# Altium integrated library Capacitor - Ceramic - Sumsung.IntLib: 1421 symbols (part 6 of 22)
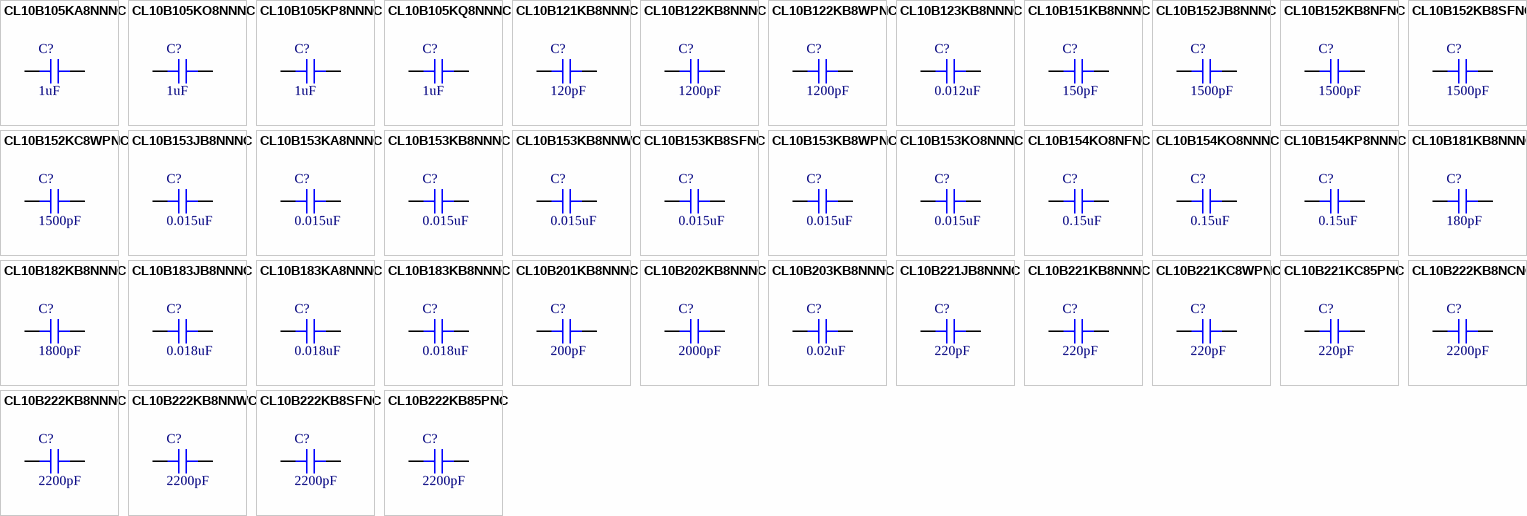
[diagram p40: symbols CL10B105KA8NNNC to CL10B222KB85PNC]

## CL10B122KB8NNNC
designator C?, comment 1200pF
CAP CER 1200PF 50V X7R 0603; Part Number: CL10B122KB8NNNC; Manufacturer: Samsung Electro-Mechanics America, Inc.; TemperatureRange: -55C ~ 125C; Tolerance: 10%; Value: 1200pF; PartId: 5350; Supplier 1: Digi-Key; Supplier Part Number 1: 1276-1951-2-ND; ComponentLink1Description: Datasheet; ComponentLink1URL: http://www.samsungsem.com/kr/support/product-search/mlcc/CL10B122KB8NNNC.jsp; ComponentLink2Description: Digi-Key listing; ComponentLink2URL: http://digikey.com/product-detail/en/CL10B122KB8NNNC/1276-1951-2-ND/3887609; TemperatureCoefficient: X7R; Voltage: 50V; Price: 0.0097; Type: -; Device Package: 0603 (1608 Metric)
footprint CAP 0603/1608
pins: 1, 2

## CL10B122KB8WPNC
designator C?, comment 1200pF
CAP CER 1200PF 50V X7R 0603; Part Number: CL10B122KB8WPNC; Manufacturer: Samsung Electro-Mechanics; TemperatureRange: -55C ~ 125C; Tolerance: 10%; Value: 1200pF; PartId: 30772; Supplier 1: Digi-Key; Supplier Part Number 1: 1276-6602-2-ND; ComponentLink1Description: Datasheet; ComponentLink1URL: http://www.samsungsem.com/kr/support/product-search/mlcc/CL10B122KB8WPNC.jsp; ComponentLink2Description: Digi-Key Listing; ComponentLink2URL: https://www.digikey.com/product-detail/en/samsung-electro-mechanics/CL10B122KB8WPNC/1276-6602-2-ND/5961086; TemperatureCoefficient: X7R; Voltage: 50V; Price: 0; Device Package: 0603 (1608 Metric)
footprint CAP 0603/1608
pins: 1, 2

## CL10B123KB8NNNC
designator C?, comment 0.012uF
CAP CER 0.012UF 50V X7R 0603; Part Number: CL10B123KB8NNNC; Manufacturer: Samsung Electro-Mechanics America, Inc.; TemperatureRange: -55C ~ 125C; Tolerance: 10%; Value: 0.012uF; PartId: 5448; Supplier 1: Digi-Key; Supplier Part Number 1: 1276-1785-2-ND; ComponentLink1Description: Datasheet; ComponentLink1URL: http://www.samsungsem.com/kr/support/product-search/mlcc/CL10B123KB8NNNC.jsp; ComponentLink2Description: Digi-Key listing; ComponentLink2URL: http://digikey.com/product-detail/en/CL10B123KB8NNNC/1276-1785-2-ND/3887443; TemperatureCoefficient: X7R; Voltage: 50V; Price: 0.0153; Type: -; Device Package: 0603 (1608 Metric)
footprint CAP 0603/1608
pins: 1, 2

## CL10B151KB8NNNC
designator C?, comment 150pF
CAP CER 150PF 50V X7R 0603; Part Number: CL10B151KB8NNNC; Manufacturer: Samsung Electro-Mechanics; TemperatureRange: -55C ~ 125C; Tolerance: 10%; Value: 150pF; PartId: 30217; Supplier 1: Digi-Key; Supplier Part Number 1: 1276-1956-2-ND; ComponentLink1Description: Datasheet; ComponentLink1URL: http://www.samsungsem.com/kr/support/product-search/mlcc/CL10B151KB8NNNC.jsp; ComponentLink2Description: Digi-Key Listing; ComponentLink2URL: https://www.digikey.com/product-detail/en/samsung-electro-mechanics/CL10B151KB8NNNC/1276-1956-2-ND/3887614; TemperatureCoefficient: X7R; Voltage: 50V; Price: 0; Device Package: 0603 (1608 Metric)
footprint CAP 0603/1608
pins: 1, 2

## CL10B152JB8NNNC
designator C?, comment 1500pF
CAP CER 1500PF 50V X7R 0603; Part Number: CL10B152JB8NNNC; Manufacturer: Samsung Electro-Mechanics America, Inc.; TemperatureRange: -55C ~ 125C; Tolerance: 5%; Value: 1500pF; PartId: 5465; Supplier 1: Digi-Key; Supplier Part Number 1: 1276-1957-2-ND; ComponentLink1Description: Datasheet; ComponentLink1URL: http://www.samsungsem.com/kr/support/product-search/mlcc/CL10B152JB8NNNC.jsp; ComponentLink2Description: Digi-Key listing; ComponentLink2URL: http://digikey.com/product-detail/en/CL10B152JB8NNNC/1276-1957-2-ND/3887615; TemperatureCoefficient: X7R; Voltage: 50V; Price: 0.0163; Type: -; Device Package: 0603 (1608 Metric)
footprint CAP 0603/1608
pins: 1, 2

## CL10B152KB8NFNC
designator C?, comment 1500pF
CAP CER 1500PF 50V X7R 0603; Part Number: CL10B152KB8NFNC; Manufacturer: Samsung Electro-Mechanics; TemperatureRange: -55C ~ 125C; Tolerance: 10%; Value: 1500pF; PartId: 30214; Supplier 1: Digi-Key; Supplier Part Number 1: 1276-1958-2-ND; ComponentLink1Description: Datasheet; ComponentLink1URL: http://www.samsungsem.com/kr/support/product-search/mlcc/CL10B152KB8NFNC.jsp; ComponentLink2Description: Digi-Key Listing; ComponentLink2URL: https://www.digikey.com/product-detail/en/samsung-electro-mechanics/CL10B152KB8NFNC/1276-1958-2-ND/3887616; TemperatureCoefficient: X7R; Voltage: 50V; Price: 0; Device Package: 0603 (1608 Metric)
footprint CAP 0603/1608
pins: 1, 2

## CL10B152KB8SFNC
designator C?, comment 1500pF
CAP CER 1500PF 50V X7R 0603; Part Number: CL10B152KB8SFNC; Manufacturer: Samsung Electro-Mechanics America, Inc.; TemperatureRange: -55C ~ 125C; Tolerance: 10%; Value: 1500pF; PartId: 13179; Supplier 1: Digi-Key; Supplier Part Number 1: 1276-1960-2-ND; ComponentLink1Description: Datasheet; ComponentLink1URL: http://www.samsungsem.com/kr/support/product-search/mlcc/CL10B152KB8SFNC.jsp; ComponentLink2Description: Digi-Key Listing; ComponentLink2URL: https://www.digikey.com/product-detail/en/samsung-electro-mechanics-america-inc/CL10B152KB8SFNC/1276-1960-2-ND/3887618; TemperatureCoefficient: X7R; Voltage: 50V; Price: 0.0063; Device Package: 0603 (1608 Metric)
footprint CAP 0603/1608
pins: 1, 2

## CL10B152KC8WPNC
designator C?, comment 1500pF
CAP CER 1500PF 100V X7R 0603; Part Number: CL10B152KC8WPNC; Manufacturer: Samsung Electro-Mechanics; TemperatureRange: -55C ~ 125C; Tolerance: 10%; Value: 1500pF; PartId: 30370; Supplier 1: Digi-Key; Supplier Part Number 1: 1276-6681-2-ND; ComponentLink1Description: Datasheet; ComponentLink1URL: http://www.samsungsem.com/kr/support/product-search/mlcc/CL10B152KC8WPNC.jsp; ComponentLink2Description: Digi-Key Listing; ComponentLink2URL: https://www.digikey.com/product-detail/en/samsung-electro-mechanics/CL10B152KC8WPNC/1276-6681-2-ND/5961165; TemperatureCoefficient: X7R; Voltage: 100V; Price: 0; Device Package: 0603 (1608 Metric)
footprint CAP 0603/1608
pins: 1, 2

## CL10B153JB8NNNC
designator C?, comment 0.015uF
CAP CER 0.015UF 50V X7R 0603; Part Number: CL10B153JB8NNNC; Manufacturer: Samsung Electro-Mechanics America, Inc.; TemperatureRange: -55C ~ 125C; Tolerance: 5%; Value: 0.015uF; PartId: 5531; Supplier 1: Digi-Key; Supplier Part Number 1: 1276-1962-2-ND; ComponentLink1Description: Datasheet; ComponentLink1URL: http://www.samsungsem.com/kr/support/product-search/mlcc/CL10B153JB8NNNC.jsp; ComponentLink2Description: Digi-Key listing; ComponentLink2URL: http://digikey.com/product-detail/en/CL10B153JB8NNNC/1276-1962-2-ND/3887620; TemperatureCoefficient: X7R; Voltage: 50V; Price: 0.0239; Type: -; Device Package: 0603 (1608 Metric)
footprint CAP 0603/1608
pins: 1, 2

## CL10B153KA8NNNC
designator C?, comment 0.015uF
CAP CER 0.015UF 25V X7R 0603; Part Number: CL10B153KA8NNNC; Manufacturer: Samsung Electro-Mechanics America, Inc.; TemperatureRange: -55C ~ 125C; Tolerance: 10%; Value: 0.015uF; PartId: 5287; Supplier 1: Digi-Key; Supplier Part Number 1: 1276-1963-2-ND; ComponentLink1Description: Datasheet; ComponentLink1URL: http://www.samsungsem.com/kr/support/product-search/mlcc/CL10B153KA8NNNC.jsp; ComponentLink2Description: Digi-Key listing; ComponentLink2URL: http://digikey.com/product-detail/en/CL10B153KA8NNNC/1276-1963-2-ND/3887621; TemperatureCoefficient: X7R; Voltage: 25V; Price: 0.007; Type: -; Device Package: 0603 (1608 Metric)
footprint CAP 0603/1608
pins: 1, 2

## CL10B153KB8NNNC
designator C?, comment 0.015uF
CAP CER 0.015UF 50V X7R 0603; Part Number: CL10B153KB8NNNC; Manufacturer: Samsung Electro-Mechanics; TemperatureRange: -55C ~ 125C; Tolerance: 10%; Value: 0.015uF; PartId: 30202; Supplier 1: Digi-Key; Supplier Part Number 1: 1276-1277-2-ND; ComponentLink1Description: Datasheet; ComponentLink1URL: http://www.samsungsem.com/kr/support/product-search/mlcc/CL10B153KB8NNNC.jsp; ComponentLink2Description: Digi-Key Listing; ComponentLink2URL: https://www.digikey.com/product-detail/en/samsung-electro-mechanics/CL10B153KB8NNNC/1276-1277-2-ND/3886935; TemperatureCoefficient: X7R; Voltage: 50V; Price: 0; Device Package: 0603 (1608 Metric)
footprint CAP 0603/1608
pins: 1, 2

## CL10B153KB8NNWC
designator C?, comment 0.015uF
CAP CER 0.015UF 50V X7R 0603; Part Number: CL10B153KB8NNWC; Manufacturer: Samsung Electro-Mechanics; TemperatureRange: -55C ~ 125C; Tolerance: 10%; Value: 0.015uF; PartId: 30290; Supplier 1: Digi-Key; Supplier Part Number 1: 1276-1966-2-ND; ComponentLink1Description: Datasheet; ComponentLink1URL: http://www.samsungsem.com/kr/support/product-search/mlcc/CL10B153KB8NNWC.jsp; ComponentLink2Description: Digi-Key Listing; ComponentLink2URL: https://www.digikey.com/product-detail/en/samsung-electro-mechanics/CL10B153KB8NNWC/1276-1966-2-ND/3887624; TemperatureCoefficient: X7R; Voltage: 50V; Price: 0; Device Package: 0603 (1608 Metric)
footprint CAP 0603/1608
pins: 1, 2

## CL10B153KB8SFNC
designator C?, comment 0.015uF
CAP CER 0.015UF 50V X7R 0603; Part Number: CL10B153KB8SFNC; Manufacturer: Samsung Electro-Mechanics America, Inc.; TemperatureRange: -55C ~ 125C; Tolerance: 10%; Value: 0.015uF; PartId: 13221; Supplier 1: Digi-Key; Supplier Part Number 1: 1276-1967-2-ND; ComponentLink1Description: Datasheet; ComponentLink1URL: http://www.samsungsem.com/kr/support/product-search/mlcc/CL10B153KB8SFNC.jsp; ComponentLink2Description: Digi-Key Listing; ComponentLink2URL: https://www.digikey.com/product-detail/en/samsung-electro-mechanics-america-inc/CL10B153KB8SFNC/1276-1967-2-ND/3887625; TemperatureCoefficient: X7R; Voltage: 50V; Price: 0.0049; Device Package: 0603 (1608 Metric)
footprint CAP 0603/1608
pins: 1, 2

## CL10B153KB8WPNC
designator C?, comment 0.015uF
CAP CER 0.015UF 50V X7R 0603; Part Number: CL10B153KB8WPNC; Manufacturer: Samsung Electro-Mechanics; TemperatureRange: -55C ~ 125C; Tolerance: 10%; Value: 0.015uF; PartId: 30245; Supplier 1: Digi-Key; Supplier Part Number 1: 1276-6626-2-ND; ComponentLink1Description: Datasheet; ComponentLink1URL: http://www.samsungsem.com/kr/support/product-search/mlcc/CL10B153KB8WPNC.jsp; ComponentLink2Description: Digi-Key Listing; ComponentLink2URL: https://www.digikey.com/product-detail/en/samsung-electro-mechanics/CL10B153KB8WPNC/1276-6626-2-ND/5961110; TemperatureCoefficient: X7R; Voltage: 50V; Price: 0; Device Package: 0603 (1608 Metric)
footprint CAP 0603/1608
pins: 1, 2

## CL10B153KO8NNNC
designator C?, comment 0.015uF
CAP CER 0.015UF 16V X7R 0603; Part Number: CL10B153KO8NNNC; Manufacturer: Samsung Electro-Mechanics America, Inc.; TemperatureRange: -55C ~ 125C; Tolerance: 10%; Value: 0.015uF; PartId: 5286; Supplier 1: Digi-Key; Supplier Part Number 1: 1276-1968-2-ND; ComponentLink1Description: Datasheet; ComponentLink1URL: http://www.samsungsem.com/kr/support/product-search/mlcc/CL10B153KO8NNNC.jsp; ComponentLink2Description: Digi-Key listing; ComponentLink2URL: http://digikey.com/product-detail/en/CL10B153KO8NNNC/1276-1968-2-ND/3887626; TemperatureCoefficient: X7R; Voltage: 16V; Price: 0.007; Type: -; Device Package: 0603 (1608 Metric)
footprint CAP 0603/1608
pins: 1, 2

## CL10B154KO8NFNC
designator C?, comment 0.15uF
CAP CER 0.15UF 16V X7R 0603; Part Number: CL10B154KO8NFNC; Manufacturer: Samsung Electro-Mechanics America, Inc.; TemperatureRange: -55C ~ 125C; Tolerance: 10%; Value: 0.15uF; PartId: 5469; Supplier 1: Digi-Key; Supplier Part Number 1: 1276-1971-2-ND; ComponentLink1Description: Datasheet; ComponentLink1URL: http://www.samsungsem.com/kr/support/product-search/mlcc/CL10B154KO8NFNC.jsp; ComponentLink2Description: Digi-Key listing; ComponentLink2URL: http://digikey.com/product-detail/en/CL10B154KO8NFNC/1276-1971-2-ND/3887629; TemperatureCoefficient: X7R; Voltage: 16V; Price: 0.0165; Type: -; Device Package: 0603 (1608 Metric)
footprint CAP 0603/1608
pins: 1, 2

## CL10B154KO8NNNC
designator C?, comment 0.15uF
CAP CER 0.15UF 16V X7R 0603; Part Number: CL10B154KO8NNNC; Manufacturer: Samsung Electro-Mechanics; TemperatureRange: -55C ~ 125C; Tolerance: 10%; Value: 0.15uF; PartId: 30321; Supplier 1: Digi-Key; Supplier Part Number 1: 1276-1972-2-ND; ComponentLink1Description: Datasheet; ComponentLink1URL: http://www.samsungsem.com/kr/support/product-search/mlcc/CL10B154KO8NNNC.jsp; ComponentLink2Description: Digi-Key Listing; ComponentLink2URL: https://www.digikey.com/product-detail/en/samsung-electro-mechanics/CL10B154KO8NNNC/1276-1972-2-ND/3887630; TemperatureCoefficient: X7R; Voltage: 16V; Price: 0; Device Package: 0603 (1608 Metric)
footprint CAP 0603/1608
pins: 1, 2

## CL10B154KP8NNNC
designator C?, comment 0.15uF
CAP CER 0.15UF 10V X7R 0603; Part Number: CL10B154KP8NNNC; Manufacturer: Samsung Electro-Mechanics America, Inc.; TemperatureRange: -55C ~ 125C; Tolerance: 10%; Value: 0.15uF; PartId: 5470; Supplier 1: Digi-Key; Supplier Part Number 1: 1276-1973-2-ND; ComponentLink1Description: Datasheet; ComponentLink1URL: http://www.samsungsem.com/kr/support/product-search/mlcc/CL10B154KP8NNNC.jsp; ComponentLink2Description: Digi-Key listing; ComponentLink2URL: http://digikey.com/product-detail/en/CL10B154KP8NNNC/1276-1973-2-ND/3887631; TemperatureCoefficient: X7R; Voltage: 10V; Price: 0.0165; Type: -; Device Package: 0603 (1608 Metric)
footprint CAP 0603/1608
pins: 1, 2

## CL10B181KB8NNNC
designator C?, comment 180pF
CAP CER 180PF 50V X7R 0603; Part Number: CL10B181KB8NNNC; Manufacturer: Samsung Electro-Mechanics America, Inc.; TemperatureRange: -55C ~ 125C; Tolerance: 10%; Value: 180pF; PartId: 5351; Supplier 1: Digi-Key; Supplier Part Number 1: 1276-1974-2-ND; ComponentLink1Description: Datasheet; ComponentLink1URL: http://www.samsungsem.com/kr/support/product-search/mlcc/CL10B181KB8NNNC.jsp; ComponentLink2Description: Digi-Key listing; ComponentLink2URL: http://digikey.com/product-detail/en/CL10B181KB8NNNC/1276-1974-2-ND/3887632; TemperatureCoefficient: X7R; Voltage: 50V; Price: 0.0097; Type: -; Device Package: 0603 (1608 Metric)
footprint CAP 0603/1608
pins: 1, 2

## CL10B182KB8NNNC
designator C?, comment 1800pF
CAP CER 1800PF 50V X7R 0603; Part Number: CL10B182KB8NNNC; Manufacturer: Samsung Electro-Mechanics America, Inc.; TemperatureRange: -55C ~ 125C; Tolerance: 10%; Value: 1800pF; PartId: 5348; Supplier 1: Digi-Key; Supplier Part Number 1: 1276-1976-2-ND; ComponentLink1Description: Datasheet; ComponentLink1URL: http://www.samsungsem.com/kr/support/product-search/mlcc/CL10B182KB8NNNC.jsp; ComponentLink2Description: Digi-Key listing; ComponentLink2URL: http://digikey.com/product-detail/en/CL10B182KB8NNNC/1276-1976-2-ND/3887634; TemperatureCoefficient: X7R; Voltage: 50V; Price: 0.0097; Type: -; Device Package: 0603 (1608 Metric)
footprint CAP 0603/1608
pins: 1, 2

## CL10B183JB8NNNC
designator C?, comment 0.018uF
CAP CER 0.018UF 50V X7R 0603; Part Number: CL10B183JB8NNNC; Manufacturer: Samsung Electro-Mechanics America, Inc.; TemperatureRange: -55C ~ 125C; Tolerance: 5%; Value: 0.018uF; PartId: 13478; Supplier 1: Digi-Key; Supplier Part Number 1: 1276-1977-2-ND; ComponentLink1Description: Datasheet; ComponentLink1URL: http://www.samsungsem.com/kr/support/product-search/mlcc/CL10B183JB8NNNC.jsp; ComponentLink2Description: Digi-Key Listing; ComponentLink2URL: https://www.digikey.com/product-detail/en/samsung-electro-mechanics-america-inc/CL10B183JB8NNNC/1276-1977-2-ND/3887635; TemperatureCoefficient: X7R; Voltage: 50V; Price: 0.0059; Device Package: 0603 (1608 Metric)
footprint CAP 0603/1608
pins: 1, 2

## CL10B183KA8NNNC
designator C?, comment 0.018uF
CAP CER 0.018UF 25V X7R 0603; Part Number: CL10B183KA8NNNC; Manufacturer: Samsung Electro-Mechanics America, Inc.; TemperatureRange: -55C ~ 125C; Tolerance: 10%; Value: 0.018uF; PartId: 5474; Supplier 1: Digi-Key; Supplier Part Number 1: 1276-1978-2-ND; ComponentLink1Description: Datasheet; ComponentLink1URL: http://www.samsungsem.com/kr/support/product-search/mlcc/CL10B183KA8NNNC.jsp; ComponentLink2Description: Digi-Key listing; ComponentLink2URL: http://digikey.com/product-detail/en/CL10B183KA8NNNC/1276-1978-2-ND/3887636; TemperatureCoefficient: X7R; Voltage: 25V; Price: 0.0168; Type: -; Device Package: 0603 (1608 Metric)
footprint CAP 0603/1608
pins: 1, 2

## CL10B183KB8NNNC
designator C?, comment 0.018uF
CAP CER 0.018UF 50V X7R 0603; Part Number: CL10B183KB8NNNC; Manufacturer: Samsung Electro-Mechanics America, Inc.; TemperatureRange: -55C ~ 125C; Tolerance: 10%; Value: 0.018uF; PartId: 5473; Supplier 1: Digi-Key; Supplier Part Number 1: 1276-1980-2-ND; ComponentLink1Description: Datasheet; ComponentLink1URL: http://www.samsungsem.com/kr/support/product-search/mlcc/CL10B183KB8NNNC.jsp; ComponentLink2Description: Digi-Key listing; ComponentLink2URL: http://digikey.com/product-detail/en/CL10B183KB8NNNC/1276-1980-2-ND/3887638; TemperatureCoefficient: X7R; Voltage: 50V; Price: 0.0168; Type: -; Device Package: 0603 (1608 Metric)
footprint CAP 0603/1608
pins: 1, 2

## CL10B201KB8NNNC
designator C?, comment 200pF
CAP CER 200PF 50V X7R 0603; Part Number: CL10B201KB8NNNC; Manufacturer: Samsung Electro-Mechanics America, Inc.; TemperatureRange: -55C ~ 125C; Tolerance: 10%; Value: 200pF; PartId: 5243; Supplier 1: Digi-Key; Supplier Part Number 1: 1276-1982-2-ND; ComponentLink1Description: Datasheet; ComponentLink1URL: http://www.samsungsem.com/kr/support/product-search/mlcc/CL10B201KB8NNNC.jsp; ComponentLink2Description: Digi-Key listing; ComponentLink2URL: http://digikey.com/product-detail/en/CL10B201KB8NNNC/1276-1982-2-ND/3887640; TemperatureCoefficient: X7R; Voltage: 50V; Price: 0.0032; Type: -; Device Package: 0603 (1608 Metric)
footprint CAP 0603/1608
pins: 1, 2

## CL10B202KB8NNNC
designator C?, comment 2000pF
CAP CER 2000PF 50V X7R 0603; Part Number: CL10B202KB8NNNC; Manufacturer: Samsung Electro-Mechanics America, Inc.; TemperatureRange: -55C ~ 125C; Tolerance: 10%; Value: 2000pF; PartId: 5242; Supplier 1: Digi-Key; Supplier Part Number 1: 1276-1983-2-ND; ComponentLink1Description: Datasheet; ComponentLink1URL: http://www.samsungsem.com/kr/support/product-search/mlcc/CL10B202KB8NNNC.jsp; ComponentLink2Description: Digi-Key listing; ComponentLink2URL: http://digikey.com/product-detail/en/CL10B202KB8NNNC/1276-1983-2-ND/3887641; TemperatureCoefficient: X7R; Voltage: 50V; Price: 0.0032; Type: -; Device Package: 0603 (1608 Metric)
footprint CAP 0603/1608
pins: 1, 2

## CL10B203KB8NNNC
designator C?, comment 0.02uF
CAP CER 0.02UF 50V X7R 0603; Part Number: CL10B203KB8NNNC; Manufacturer: Samsung Electro-Mechanics America, Inc.; TemperatureRange: -55C ~ 125C; Tolerance: 10%; Value: 0.02uF; PartId: 5285; Supplier 1: Digi-Key; Supplier Part Number 1: 1276-1984-2-ND; ComponentLink1Description: Datasheet; ComponentLink1URL: http://www.samsungsem.com/kr/support/product-search/mlcc/CL10B203KB8NNNC.jsp; ComponentLink2Description: Digi-Key listing; ComponentLink2URL: http://digikey.com/product-detail/en/CL10B203KB8NNNC/1276-1984-2-ND/3887642; TemperatureCoefficient: X7R; Voltage: 50V; Price: 0.007; Type: -; Device Package: 0603 (1608 Metric)
footprint CAP 0603/1608
pins: 1, 2

## CL10B221JB8NNNC
designator C?, comment 220pF
CAP CER 220PF 50V X7R 0603; Part Number: CL10B221JB8NNNC; Manufacturer: Samsung Electro-Mechanics America, Inc.; TemperatureRange: -55C ~ 125C; Tolerance: 5%; Value: 220pF; PartId: 5468; Supplier 1: Digi-Key; Supplier Part Number 1: 1276-1985-2-ND; ComponentLink1Description: Datasheet; ComponentLink1URL: http://www.samsungsem.com/kr/support/product-search/mlcc/CL10B221JB8NNNC.jsp; ComponentLink2Description: Digi-Key listing; ComponentLink2URL: http://digikey.com/product-detail/en/CL10B221JB8NNNC/1276-1985-2-ND/3887643; TemperatureCoefficient: X7R; Voltage: 50V; Price: 0.0164; Type: -; Device Package: 0603 (1608 Metric)
footprint CAP 0603/1608
pins: 1, 2

## CL10B221KB8NNNC
designator C?, comment 220pF
CAP CER 220PF 50V X7R 0603; Part Number: CL10B221KB8NNNC; Manufacturer: Samsung Electro-Mechanics America, Inc.; TemperatureRange: -55C ~ 125C; Tolerance: 10%; Value: 220pF; PartId: 5345; Supplier 1: Digi-Key; Supplier Part Number 1: 1276-1145-2-ND; ComponentLink1Description: Datasheet; ComponentLink1URL: http://www.samsungsem.com/kr/support/product-search/mlcc/CL10B221KB8NNNC.jsp; ComponentLink2Description: Digi-Key listing; ComponentLink2URL: http://digikey.com/product-detail/en/CL10B221KB8NNNC/1276-1145-2-ND/3886803; TemperatureCoefficient: X7R; Voltage: 50V; Price: 0.0097; Type: -; Device Package: 0603 (1608 Metric)
footprint CAP 0603/1608
pins: 1, 2

## CL10B221KC8WPNC
designator C?, comment 220pF
CAP CER 220PF 100V X7R 0603; Part Number: CL10B221KC8WPNC; Manufacturer: Samsung Electro-Mechanics; TemperatureRange: -55C ~ 125C; Tolerance: 10%; Value: 220pF; PartId: 30268; Supplier 1: Digi-Key; Supplier Part Number 1: 1276-6656-2-ND; ComponentLink1Description: Datasheet; ComponentLink1URL: http://www.samsungsem.com/kr/support/product-search/mlcc/CL10B221KC8WPNC.jsp; ComponentLink2Description: Digi-Key Listing; ComponentLink2URL: https://www.digikey.com/product-detail/en/samsung-electro-mechanics/CL10B221KC8WPNC/1276-6656-2-ND/5961140; TemperatureCoefficient: X7R; Voltage: 100V; Price: 0; Device Package: 0603 (1608 Metric)
footprint CAP 0603/1608
pins: 1, 2

## CL10B221KC85PNC
designator C?, comment 220pF
CAP CER 220PF 100V X7R 0603; Part Number: CL10B221KC85PNC; Manufacturer: Samsung Electro-Mechanics; TemperatureRange: -55C ~ 125C; Tolerance: 10%; Value: 220pF; PartId: 30508; Supplier 1: Digi-Key; Supplier Part Number 1: 1276-6988-2-ND; ComponentLink1Description: Datasheet; ComponentLink1URL: http://www.samsungsem.com/kr/support/product-search/mlcc/CL10B221KC85PNC.jsp; ComponentLink2Description: Digi-Key Listing; ComponentLink2URL: https://www.digikey.com/product-detail/en/samsung-electro-mechanics/CL10B221KC85PNC/1276-6988-2-ND/7320493; TemperatureCoefficient: X7R; Voltage: 100V; Price: 0; Device Package: 0603 (1608 Metric)
footprint CAP 0603/1608
pins: 1, 2

## CL10B222KB8NCNC
designator C?, comment 2200pF
CAP CER 2200PF 50V X7R 0603; Part Number: CL10B222KB8NCNC; Manufacturer: Samsung Electro-Mechanics America, Inc.; TemperatureRange: -55C ~ 125C; Tolerance: 10%; Value: 2200pF; PartId: 5307; Supplier 1: Digi-Key; Supplier Part Number 1: 1276-1989-2-ND; ComponentLink1Description: Datasheet; ComponentLink1URL: http://www.samsungsem.com/global/front/downloadcms.do?path=%2F%2Fglobal%2F%2Fsupport%2F%2Flibrary%2F%2Fproduct-catalog%2F%2F__icsFiles%2F%2Fafieldfile%2F%2F2015%2F%2F11%2F%2F18&fileName=MLCC_1.pdf; ComponentLink2Description: Digi-Key listing; ComponentLink2URL: http://digikey.com/product-detail/en/CL10B222KB8NCNC/1276-1989-2-ND/3887647; TemperatureCoefficient: X7R; Voltage: 50V; Price: 0.0079; Type: -; Device Package: 0603 (1608 Metric)
footprint CAP 0603/1608
pins: 1, 2

## CL10B222KB8NNNC
designator C?, comment 2200pF
CAP CER 2200PF 50V X7R 0603; Part Number: CL10B222KB8NNNC; Manufacturer: Samsung Electro-Mechanics America, Inc.; TemperatureRange: -55C ~ 125C; Tolerance: 10%; Value: 2200pF; PartId: 13310; Supplier 1: Digi-Key; Supplier Part Number 1: 1276-1110-2-ND; ComponentLink1Description: Datasheet; ComponentLink1URL: http://www.samsungsem.com/kr/support/product-search/mlcc/CL10B222KB8NNNC.jsp; ComponentLink2Description: Digi-Key Listing; ComponentLink2URL: https://www.digikey.com/product-detail/en/samsung-electro-mechanics-america-inc/CL10B222KB8NNNC/1276-1110-2-ND/3886768; TemperatureCoefficient: X7R; Voltage: 50V; Price: 0.0063; Device Package: 0603 (1608 Metric)
footprint CAP 0603/1608
pins: 1, 2

## CL10B222KB8NNWC
designator C?, comment 2200pF
CAP CER 2200PF 50V X7R 0603; Part Number: CL10B222KB8NNWC; Manufacturer: Samsung Electro-Mechanics; TemperatureRange: -55C ~ 125C; Tolerance: 10%; Value: 2200pF; PartId: 30222; Supplier 1: Digi-Key; Supplier Part Number 1: 1276-1991-2-ND; ComponentLink1Description: Datasheet; ComponentLink1URL: http://www.samsungsem.com/kr/support/product-search/mlcc/CL10B222KB8NNWC.jsp; ComponentLink2Description: Digi-Key Listing; ComponentLink2URL: https://www.digikey.com/product-detail/en/samsung-electro-mechanics/CL10B222KB8NNWC/1276-1991-2-ND/3887649; TemperatureCoefficient: X7R; Voltage: 50V; Price: 0; Device Package: 0603 (1608 Metric)
footprint CAP 0603/1608
pins: 1, 2

## CL10B222KB8SFNC
designator C?, comment 2200pF
CAP CER 2200PF 50V X7R 0603; Part Number: CL10B222KB8SFNC; Manufacturer: Samsung Electro-Mechanics America, Inc.; TemperatureRange: -55C ~ 125C; Tolerance: 10%; Value: 2200pF; PartId: 13114; Supplier 1: Digi-Key; Supplier Part Number 1: 1276-1992-2-ND; ComponentLink1Description: Datasheet; ComponentLink1URL: http://www.samsungsem.com/kr/support/product-search/mlcc/CL10B222KB8SFNC.jsp; ComponentLink2Description: Digi-Key Listing; ComponentLink2URL: https://www.digikey.com/product-detail/en/samsung-electro-mechanics-america-inc/CL10B222KB8SFNC/1276-1992-2-ND/3887650; TemperatureCoefficient: X7R; Voltage: 50V; Price: 0.0055; Device Package: 0603 (1608 Metric)
footprint CAP 0603/1608
pins: 1, 2

## CL10B222KB85PNC
designator C?, comment 2200pF
CAP CER 2200PF 50V X7R 0603; Part Number: CL10B222KB85PNC; Manufacturer: Samsung Electro-Mechanics; TemperatureRange: -55C ~ 125C; Tolerance: 10%; Value: 2200pF; PartId: 30266; Supplier 1: Digi-Key; Supplier Part Number 1: 1276-1988-2-ND; ComponentLink1Description: Datasheet; ComponentLink1URL: http://www.samsungsem.com/kr/support/product-search/mlcc/CL10B222KB85PNC.jsp; ComponentLink2Description: Digi-Key Listing; ComponentLink2URL: https://www.digikey.com/product-detail/en/samsung-electro-mechanics/CL10B222KB85PNC/1276-1988-2-ND/3887646; TemperatureCoefficient: X7R; Voltage: 50V; Price: 0; Device Package: 0603 (1608 Metric)
footprint CAP 0603/1608
pins: 1, 2

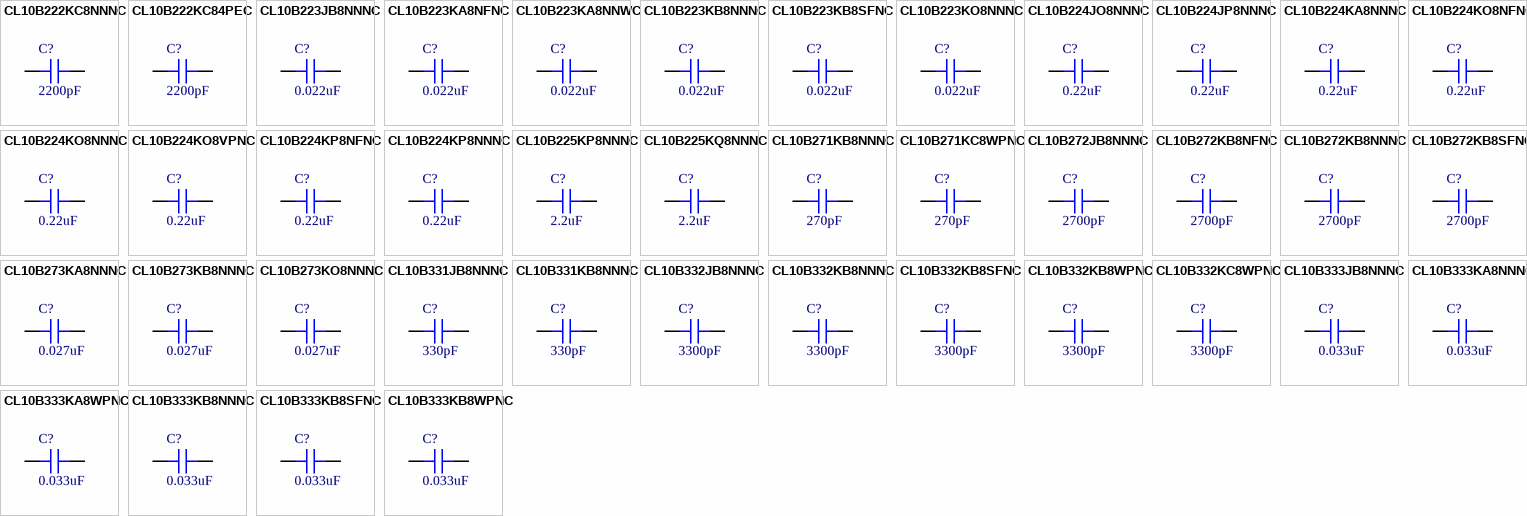
[diagram p9: symbols CL10B222KC8NNNC to CL10B333KB8WPNC]

## CL10B222KC8NNNC
designator C?, comment 2200pF
CAP CER 2200PF 100V X7R 0603; Part Number: CL10B222KC8NNNC; Manufacturer: Samsung Electro-Mechanics; TemperatureRange: -55C ~ 125C; Tolerance: 10%; Value: 2200pF; PartId: 30300; Supplier 1: Digi-Key; Supplier Part Number 1: 1276-1994-2-ND; ComponentLink1Description: Datasheet; ComponentLink1URL: http://www.samsungsem.com/kr/support/product-search/mlcc/CL10B222KC8NNNC.jsp; ComponentLink2Description: Digi-Key Listing; ComponentLink2URL: https://www.digikey.com/product-detail/en/samsung-electro-mechanics/CL10B222KC8NNNC/1276-1994-2-ND/3887652; TemperatureCoefficient: X7R; Voltage: 100V; Price: 0; Device Package: 0603 (1608 Metric)
footprint CAP 0603/1608
pins: 1, 2

## CL10B222KC84PEC
designator C?, comment 2200pF
CAP CER 2200PF 100V X7R 0603; Part Number: CL10B222KC84PEC; Manufacturer: Samsung Electro-Mechanics; TemperatureRange: -55C ~ 125C; Tolerance: 10%; Value: 2200pF; PartId: 30507; Supplier 1: Digi-Key; Supplier Part Number 1: 1276-6546-2-ND; ComponentLink1Description: Datasheet; ComponentLink1URL: http://www.samsungsem.com/kr/support/library/product-catalog/mlcc.jsp; ComponentLink2Description: Digi-Key Listing; ComponentLink2URL: https://www.digikey.com/product-detail/en/samsung-electro-mechanics/CL10B222KC84PEC/1276-6546-2-ND/5961030; TemperatureCoefficient: X7R; Voltage: 100V; Price: 0; Device Package: 0603 (1608 Metric)
footprint CAP 0603/1608
pins: 1, 2

## CL10B223JB8NNNC
designator C?, comment 0.022uF
CAP CER 0.022UF 50V X7R 0603; Part Number: CL10B223JB8NNNC; Manufacturer: Samsung Electro-Mechanics America, Inc.; TemperatureRange: -55C ~ 125C; Tolerance: 5%; Value: 0.022uF; PartId: 5532; Supplier 1: Digi-Key; Supplier Part Number 1: 1276-1996-2-ND; ComponentLink1Description: Datasheet; ComponentLink1URL: http://www.samsungsem.com/kr/support/product-search/mlcc/CL10B223JB8NNNC.jsp; ComponentLink2Description: Digi-Key listing; ComponentLink2URL: http://digikey.com/product-detail/en/CL10B223JB8NNNC/1276-1996-2-ND/3887654; TemperatureCoefficient: X7R; Voltage: 50V; Price: 0.0239; Type: -; Device Package: 0603 (1608 Metric)
footprint CAP 0603/1608
pins: 1, 2

## CL10B223KA8NFNC
designator C?, comment 0.022uF
CAP CER 0.022UF 25V X7R 0603; Part Number: CL10B223KA8NFNC; Manufacturer: Samsung Electro-Mechanics; TemperatureRange: -55C ~ 125C; Tolerance: 10%; Value: 0.022uF; PartId: 30223; Supplier 1: Digi-Key; Supplier Part Number 1: 1276-1998-2-ND; ComponentLink1Description: Datasheet; ComponentLink1URL: http://www.samsungsem.com/kr/support/product-search/mlcc/CL10B223KA8NFNC.jsp; ComponentLink2Description: Digi-Key Listing; ComponentLink2URL: https://www.digikey.com/product-detail/en/samsung-electro-mechanics/CL10B223KA8NFNC/1276-1998-2-ND/3887656; TemperatureCoefficient: X7R; Voltage: 25V; Price: 0; Device Package: 0603 (1608 Metric)
footprint CAP 0603/1608
pins: 1, 2

## CL10B223KA8NNWC
designator C?, comment 0.022uF
CAP CER 0.022UF 25V X7R 0603; Part Number: CL10B223KA8NNWC; Manufacturer: Samsung Electro-Mechanics America, Inc.; TemperatureRange: -55C ~ 125C; Tolerance: 10%; Value: 0.022uF; PartId: 5394; Supplier 1: Digi-Key; Supplier Part Number 1: 1276-2000-2-ND; ComponentLink1Description: Datasheet; ComponentLink1URL: http://www.samsungsem.com/kr/support/product-search/mlcc/CL10B223KA8NNWC.jsp; ComponentLink2Description: Digi-Key listing; ComponentLink2URL: http://digikey.com/product-detail/en/CL10B223KA8NNWC/1276-2000-2-ND/3887658; TemperatureCoefficient: X7R; Voltage: 25V; Price: 0.0109; Type: -; Device Package: 0603 (1608 Metric)
footprint CAP 0603/1608
pins: 1, 2

## CL10B223KB8NNNC
designator C?, comment 0.022uF
CAP CER 0.022UF 50V X7R 0603; Part Number: CL10B223KB8NNNC; Manufacturer: Samsung Electro-Mechanics America, Inc.; TemperatureRange: -55C ~ 125C; Tolerance: 10%; Value: 0.022uF; PartId: 13210; Supplier 1: Digi-Key; Supplier Part Number 1: 1276-1104-2-ND; ComponentLink1Description: Datasheet; ComponentLink1URL: http://www.samsungsem.com/kr/support/product-search/mlcc/CL10B223KB8NNNC.jsp; ComponentLink2Description: Digi-Key Listing; ComponentLink2URL: https://www.digikey.com/product-detail/en/samsung-electro-mechanics-america-inc/CL10B223KB8NNNC/1276-1104-2-ND/3886762; TemperatureCoefficient: X7R; Voltage: 50V; Price: 0.0075; Device Package: 0603 (1608 Metric)
footprint CAP 0603/1608
pins: 1, 2

## CL10B223KB8SFNC
designator C?, comment 0.022uF
CAP CER 0.022UF 50V X7R 0603; Part Number: CL10B223KB8SFNC; Manufacturer: Samsung Electro-Mechanics America, Inc.; TemperatureRange: -55C ~ 125C; Tolerance: 10%; Value: 0.022uF; PartId: 13280; Supplier 1: Digi-Key; Supplier Part Number 1: 1276-2004-2-ND; ComponentLink1Description: Datasheet; ComponentLink1URL: http://www.samsungsem.com/kr/support/product-search/mlcc/CL10B223KB8SFNC.jsp; ComponentLink2Description: Digi-Key Listing; ComponentLink2URL: https://www.digikey.com/product-detail/en/samsung-electro-mechanics-america-inc/CL10B223KB8SFNC/1276-2004-2-ND/3887662; TemperatureCoefficient: X7R; Voltage: 50V; Price: 0.0075; Device Package: 0603 (1608 Metric)
footprint CAP 0603/1608
pins: 1, 2

## CL10B223KO8NNNC
designator C?, comment 0.022uF
CAP CER 0.022UF 16V X7R 0603; Part Number: CL10B223KO8NNNC; Manufacturer: Samsung Electro-Mechanics America, Inc.; TemperatureRange: -55C ~ 125C; Tolerance: 10%; Value: 0.022uF; PartId: 5395; Supplier 1: Digi-Key; Supplier Part Number 1: 1276-2005-2-ND; ComponentLink1Description: Datasheet; ComponentLink1URL: http://www.samsungsem.com/kr/support/product-search/mlcc/CL10B223KO8NNNC.jsp; ComponentLink2Description: Digi-Key listing; ComponentLink2URL: http://digikey.com/product-detail/en/CL10B223KO8NNNC/1276-2005-2-ND/3887663; TemperatureCoefficient: X7R; Voltage: 16V; Price: 0.0109; Type: -; Device Package: 0603 (1608 Metric)
footprint CAP 0603/1608
pins: 1, 2

## CL10B224JO8NNNC
designator C?, comment 0.22uF
CAP CER 0.22UF 16V X7R 0603; Part Number: CL10B224JO8NNNC; Manufacturer: Samsung Electro-Mechanics America, Inc.; TemperatureRange: -55C ~ 125C; Tolerance: 5%; Value: 0.22uF; PartId: 5641; Supplier 1: Digi-Key; Supplier Part Number 1: 1276-2007-2-ND; ComponentLink1Description: Datasheet; ComponentLink1URL: http://www.samsungsem.com/kr/support/product-search/mlcc/CL10B224JO8NNNC.jsp; ComponentLink2Description: Digi-Key listing; ComponentLink2URL: http://digikey.com/product-detail/en/CL10B224JO8NNNC/1276-2007-2-ND/3887665; TemperatureCoefficient: X7R; Voltage: 16V; Price: 0.0457; Type: -; Device Package: 0603 (1608 Metric)
footprint CAP 0603/1608
pins: 1, 2

## CL10B224JP8NNNC
designator C?, comment 0.22uF
CAP CER 0.22UF 10V X7R 0603; Part Number: CL10B224JP8NNNC; Manufacturer: Samsung Electro-Mechanics America, Inc.; TemperatureRange: -55C ~ 125C; Tolerance: 5%; Value: 0.22uF; PartId: 5609; Supplier 1: Digi-Key; Supplier Part Number 1: 1276-2008-2-ND; ComponentLink1Description: Datasheet; ComponentLink1URL: http://www.samsungsem.com/kr/support/product-search/mlcc/CL10B224JP8NNNC.jsp; ComponentLink2Description: Digi-Key listing; ComponentLink2URL: http://digikey.com/product-detail/en/CL10B224JP8NNNC/1276-2008-2-ND/3887666; TemperatureCoefficient: X7R; Voltage: 10V; Price: 0.034; Type: -; Device Package: 0603 (1608 Metric)
footprint CAP 0603/1608
pins: 1, 2

## CL10B224KA8NNNC
designator C?, comment 0.22uF
CAP CER 0.22UF 25V X7R 0603; Part Number: CL10B224KA8NNNC; Manufacturer: Samsung Electro-Mechanics America, Inc.; TemperatureRange: -55C ~ 125C; Tolerance: 10%; Value: 0.22uF; PartId: 13352; Supplier 1: Digi-Key; Supplier Part Number 1: 1276-1111-2-ND; ComponentLink1Description: Datasheet; ComponentLink1URL: http://www.samsungsem.com/kr/support/product-search/mlcc/CL10B224KA8NNNC.jsp; ComponentLink2Description: Digi-Key Listing; ComponentLink2URL: https://www.digikey.com/product-detail/en/samsung-electro-mechanics-america-inc/CL10B224KA8NNNC/1276-1111-2-ND/3886769; TemperatureCoefficient: X7R; Voltage: 25V; Price: 0.0121; Device Package: 0603 (1608 Metric)
footprint CAP 0603/1608
pins: 1, 2

## CL10B224KO8NFNC
designator C?, comment 0.22uF
CAP CER 0.22UF 16V X7R 0603; Part Number: CL10B224KO8NFNC; Manufacturer: Samsung Electro-Mechanics; TemperatureRange: -55C ~ 125C; Tolerance: 10%; Value: 0.22uF; PartId: 30326; Supplier 1: Digi-Key; Supplier Part Number 1: 1276-2010-2-ND; ComponentLink1Description: Datasheet; ComponentLink1URL: http://www.samsungsem.com/kr/support/product-search/mlcc/CL10B224KO8NFNC.jsp; ComponentLink2Description: Digi-Key Listing; ComponentLink2URL: https://www.digikey.com/product-detail/en/samsung-electro-mechanics/CL10B224KO8NFNC/1276-2010-2-ND/3887668; TemperatureCoefficient: X7R; Voltage: 16V; Price: 0; Device Package: 0603 (1608 Metric)
footprint CAP 0603/1608
pins: 1, 2

## CL10B224KO8NNNC
designator C?, comment 0.22uF
CAP CER 0.22UF 16V X7R 0603; Part Number: CL10B224KO8NNNC; Manufacturer: Samsung Electro-Mechanics America, Inc.; TemperatureRange: -55C ~ 125C; Tolerance: 10%; Value: 0.22uF; PartId: 13126; Supplier 1: Digi-Key; Supplier Part Number 1: 1276-1112-2-ND; ComponentLink1Description: Datasheet; ComponentLink1URL: http://www.samsungsem.com/kr/support/product-search/mlcc/CL10B224KO8NNNC.jsp; ComponentLink2Description: Digi-Key Listing; ComponentLink2URL: https://www.digikey.com/product-detail/en/samsung-electro-mechanics-america-inc/CL10B224KO8NNNC/1276-1112-2-ND/3886770; TemperatureCoefficient: X7R; Voltage: 16V; Price: 0.0067; Device Package: 0603 (1608 Metric)
footprint CAP 0603/1608
pins: 1, 2

## CL10B224KO8VPNC
designator C?, comment 0.22uF
CAP CER 0.22UF 16V X7R 0603; Part Number: CL10B224KO8VPNC; Manufacturer: Samsung Electro-Mechanics; TemperatureRange: -55C ~ 125C; Tolerance: 10%; Value: 0.22uF; PartId: 30488; Supplier 1: Digi-Key; Supplier Part Number 1: 1276-6868-2-ND; ComponentLink1Description: Datasheet; ComponentLink1URL: http://www.samsungsem.com/kr/support/product-search/mlcc/CL10B224KO8VPNC.jsp; ComponentLink2Description: Digi-Key Listing; ComponentLink2URL: https://www.digikey.com/product-detail/en/samsung-electro-mechanics/CL10B224KO8VPNC/1276-6868-2-ND/5961352; TemperatureCoefficient: X7R; Voltage: 16V; Price: 0; Device Package: 0603 (1608 Metric)
footprint CAP 0603/1608
pins: 1, 2

## CL10B224KP8NFNC
designator C?, comment 0.22uF
CAP CER 0.22UF 10V X7R 0603; Part Number: CL10B224KP8NFNC; Manufacturer: Samsung Electro-Mechanics America, Inc.; TemperatureRange: -55C ~ 125C; Tolerance: 10%; Value: 0.22uF; PartId: 13490; Supplier 1: Digi-Key; Supplier Part Number 1: 1276-2013-2-ND; ComponentLink1Description: Datasheet; ComponentLink1URL: http://www.samsungsem.com/kr/support/product-search/mlcc/CL10B224KP8NFNC.jsp; ComponentLink2Description: Digi-Key Listing; ComponentLink2URL: https://www.digikey.com/product-detail/en/samsung-electro-mechanics-america-inc/CL10B224KP8NFNC/1276-2013-2-ND/3887671; TemperatureCoefficient: X7R; Voltage: 10V; Price: 0.0067; Device Package: 0603 (1608 Metric)
footprint CAP 0603/1608
pins: 1, 2

## CL10B224KP8NNNC
designator C?, comment 0.22uF
CAP CER 0.22UF 10V X7R 0603; Part Number: CL10B224KP8NNNC; Manufacturer: Samsung Electro-Mechanics America, Inc.; TemperatureRange: -55C ~ 125C; Tolerance: 10%; Value: 0.22uF; PartId: 5342; Supplier 1: Digi-Key; Supplier Part Number 1: 1276-2014-2-ND; ComponentLink1Description: Datasheet; ComponentLink1URL: http://www.samsungsem.com/kr/support/product-search/mlcc/CL10B224KP8NNNC.jsp; ComponentLink2Description: Digi-Key listing; ComponentLink2URL: http://digikey.com/product-detail/en/CL10B224KP8NNNC/1276-2014-2-ND/3887672; TemperatureCoefficient: X7R; Voltage: 10V; Price: 0.0097; Type: -; Device Package: 0603 (1608 Metric)
footprint CAP 0603/1608
pins: 1, 2

## CL10B225KP8NNNC
designator C?, comment 2.2uF
CAP CER 2.2UF 10V X7R 0603; Part Number: CL10B225KP8NNNC; Manufacturer: Samsung Electro-Mechanics America, Inc.; TemperatureRange: -55C ~ 125C; Tolerance: 10%; Value: 2.2uF; PartId: 13201; Supplier 1: Digi-Key; Supplier Part Number 1: 1276-1134-2-ND; ComponentLink1Description: Datasheet; ComponentLink1URL: http://www.samsungsem.com/kr/support/product-search/mlcc/CL10B225KP8NNNC.jsp; ComponentLink2Description: Digi-Key Listing; ComponentLink2URL: https://www.digikey.com/product-detail/en/samsung-electro-mechanics-america-inc/CL10B225KP8NNNC/1276-1134-2-ND/3886792; TemperatureCoefficient: X7R; Voltage: 10V; Price: 0.0247; Device Package: 0603 (1608 Metric)
footprint CAP 0603/1608
pins: 1, 2

## CL10B225KQ8NNNC
designator C?, comment 2.2uF
CAP CER 2.2UF 6.3V X7R 0603; Part Number: CL10B225KQ8NNNC; Manufacturer: Samsung Electro-Mechanics America, Inc.; TemperatureRange: -55C ~ 125C; Tolerance: 10%; Value: 2.2uF; PartId: 13597; Supplier 1: Digi-Key; Supplier Part Number 1: 1276-2018-2-ND; ComponentLink1Description: Datasheet; ComponentLink1URL: http://www.samsungsem.com/kr/support/product-search/mlcc/CL10B225KQ8NNNC.jsp; ComponentLink2Description: Digi-Key Listing; ComponentLink2URL: https://www.digikey.com/product-detail/en/samsung-electro-mechanics-america-inc/CL10B225KQ8NNNC/1276-2018-2-ND/3887676; TemperatureCoefficient: X7R; Voltage: 6.3V; Price: 0.0247; Device Package: 0603 (1608 Metric)
footprint CAP 0603/1608
pins: 1, 2

## CL10B271KB8NNNC
designator C?, comment 270pF
CAP CER 270PF 50V X7R 0603; Part Number: CL10B271KB8NNNC; Manufacturer: Samsung Electro-Mechanics America, Inc.; TemperatureRange: -55C ~ 125C; Tolerance: 10%; Value: 270pF; PartId: 5346; Supplier 1: Digi-Key; Supplier Part Number 1: 1276-2019-2-ND; ComponentLink1Description: Datasheet; ComponentLink1URL: http://www.samsungsem.com/kr/support/product-search/mlcc/CL10B271KB8NNNC.jsp; ComponentLink2Description: Digi-Key listing; ComponentLink2URL: http://digikey.com/product-detail/en/CL10B271KB8NNNC/1276-2019-2-ND/3887677; TemperatureCoefficient: X7R; Voltage: 50V; Price: 0.0097; Type: -; Device Package: 0603 (1608 Metric)
footprint CAP 0603/1608
pins: 1, 2

## CL10B271KC8WPNC
designator C?, comment 270pF
CAP CER 270PF 100V X7R 0603; Part Number: CL10B271KC8WPNC; Manufacturer: Samsung Electro-Mechanics; TemperatureRange: -55C ~ 125C; Tolerance: 10%; Value: 270pF; PartId: 30611; Supplier 1: Digi-Key; Supplier Part Number 1: 1276-6653-2-ND; ComponentLink1Description: Datasheet; ComponentLink1URL: http://www.samsungsem.com/kr/support/product-search/mlcc/CL10B271KC8WPNC.jsp; ComponentLink2Description: Digi-Key Listing; ComponentLink2URL: https://www.digikey.com/product-detail/en/samsung-electro-mechanics/CL10B271KC8WPNC/1276-6653-2-ND/5961137; TemperatureCoefficient: X7R; Voltage: 100V; Price: 0; Device Package: 0603 (1608 Metric)
footprint CAP 0603/1608
pins: 1, 2

## CL10B272JB8NNNC
designator C?, comment 2700pF
CAP CER 2700PF 50V X7R 0603; Part Number: CL10B272JB8NNNC; Manufacturer: Samsung Electro-Mechanics America, Inc.; TemperatureRange: -55C ~ 125C; Tolerance: 5%; Value: 2700pF; PartId: 5451; Supplier 1: Digi-Key; Supplier Part Number 1: 1276-2020-2-ND; ComponentLink1Description: Datasheet; ComponentLink1URL: http://www.samsungsem.com/kr/support/product-search/mlcc/CL10B272JB8NNNC.jsp; ComponentLink2Description: Digi-Key listing; ComponentLink2URL: http://digikey.com/product-detail/en/CL10B272JB8NNNC/1276-2020-2-ND/3887678; TemperatureCoefficient: X7R; Voltage: 50V; Price: 0.0153; Type: -; Device Package: 0603 (1608 Metric)
footprint CAP 0603/1608
pins: 1, 2

## CL10B272KB8NFNC
designator C?, comment 2700pF
CAP CER 2700PF 50V X7R 0603; Part Number: CL10B272KB8NFNC; Manufacturer: Samsung Electro-Mechanics; TemperatureRange: -55C ~ 125C; Tolerance: 10%; Value: 2700pF; PartId: 30333; Supplier 1: Digi-Key; Supplier Part Number 1: 1276-2021-2-ND; ComponentLink1Description: Datasheet; ComponentLink1URL: http://www.samsungsem.com/kr/support/product-search/mlcc/CL10B272KB8NFNC.jsp; ComponentLink2Description: Digi-Key Listing; ComponentLink2URL: https://www.digikey.com/product-detail/en/samsung-electro-mechanics/CL10B272KB8NFNC/1276-2021-2-ND/3887679; TemperatureCoefficient: X7R; Voltage: 50V; Price: 0; Device Package: 0603 (1608 Metric)
footprint CAP 0603/1608
pins: 1, 2

## CL10B272KB8NNNC
designator C?, comment 2700pF
CAP CER 2700PF 50V X7R 0603; Part Number: CL10B272KB8NNNC; Manufacturer: Samsung Electro-Mechanics America, Inc.; TemperatureRange: -55C ~ 125C; Tolerance: 10%; Value: 2700pF; PartId: 5354; Supplier 1: Digi-Key; Supplier Part Number 1: 1276-2022-2-ND; ComponentLink1Description: Datasheet; ComponentLink1URL: http://www.samsungsem.com/kr/support/product-search/mlcc/CL10B272KB8NNNC.jsp; ComponentLink2Description: Digi-Key listing; ComponentLink2URL: http://digikey.com/product-detail/en/CL10B272KB8NNNC/1276-2022-2-ND/3887680; TemperatureCoefficient: X7R; Voltage: 50V; Price: 0.0097; Type: -; Device Package: 0603 (1608 Metric)
footprint CAP 0603/1608
pins: 1, 2

## CL10B272KB8SFNC
designator C?, comment 2700pF
CAP CER 2700PF 50V X7R 0603; Part Number: CL10B272KB8SFNC; Manufacturer: Samsung Electro-Mechanics America, Inc.; TemperatureRange: -55C ~ 125C; Tolerance: 10%; Value: 2700pF; PartId: 13424; Supplier 1: Digi-Key; Supplier Part Number 1: 1276-2023-2-ND; ComponentLink1Description: Datasheet; ComponentLink1URL: http://www.samsungsem.com/kr/support/product-search/mlcc/CL10B272KB8SFNC.jsp; ComponentLink2Description: Digi-Key Listing; ComponentLink2URL: https://www.digikey.com/product-detail/en/samsung-electro-mechanics-america-inc/CL10B272KB8SFNC/1276-2023-2-ND/3887681; TemperatureCoefficient: X7R; Voltage: 50V; Price: 0.0092; Device Package: 0603 (1608 Metric)
footprint CAP 0603/1608
pins: 1, 2

## CL10B273KA8NNNC
designator C?, comment 0.027uF
CAP CER 0.027UF 25V X7R 0603; Part Number: CL10B273KA8NNNC; Manufacturer: Samsung Electro-Mechanics America, Inc.; TemperatureRange: -55C ~ 125C; Tolerance: 10%; Value: 0.027uF; PartId: 5488; Supplier 1: Digi-Key; Supplier Part Number 1: 1276-2024-2-ND; ComponentLink1Description: Datasheet; ComponentLink1URL: http://www.samsungsem.com/kr/support/product-search/mlcc/CL10B273KA8NNNC.jsp; ComponentLink2Description: Digi-Key listing; ComponentLink2URL: http://digikey.com/product-detail/en/CL10B273KA8NNNC/1276-2024-2-ND/3887682; TemperatureCoefficient: X7R; Voltage: 25V; Price: 0.0188; Type: -; Device Package: 0603 (1608 Metric)
footprint CAP 0603/1608
pins: 1, 2

## CL10B273KB8NNNC
designator C?, comment 0.027uF
CAP CER 0.027UF 50V X7R 0603; Part Number: CL10B273KB8NNNC; Manufacturer: Samsung Electro-Mechanics America, Inc.; TemperatureRange: -55C ~ 125C; Tolerance: 10%; Value: 0.027uF; PartId: 5527; Supplier 1: Digi-Key; Supplier Part Number 1: 1276-2025-2-ND; ComponentLink1Description: Datasheet; ComponentLink1URL: http://www.samsungsem.com/kr/support/product-search/mlcc/CL10B273KB8NNNC.jsp; ComponentLink2Description: Digi-Key listing; ComponentLink2URL: http://digikey.com/product-detail/en/CL10B273KB8NNNC/1276-2025-2-ND/3887683; TemperatureCoefficient: X7R; Voltage: 50V; Price: 0.0235; Type: -; Device Package: 0603 (1608 Metric)
footprint CAP 0603/1608
pins: 1, 2

## CL10B273KO8NNNC
designator C?, comment 0.027uF
CAP CER 0.027UF 16V X7R 0603; Part Number: CL10B273KO8NNNC; Manufacturer: Samsung Electro-Mechanics America, Inc.; TemperatureRange: -55C ~ 125C; Tolerance: 10%; Value: 0.027uF; PartId: 5489; Supplier 1: Digi-Key; Supplier Part Number 1: 1276-2027-2-ND; ComponentLink1Description: Datasheet; ComponentLink1URL: http://www.samsungsem.com/kr/front/downloadcms.do?path=/kr/support/product-search/mlcc/__icsFiles/afieldfile/2014/11/05&fileName=C_CL10B273KO8NNNC.pdf; ComponentLink2Description: Digi-Key listing; ComponentLink2URL: http://digikey.com/product-detail/en/CL10B273KO8NNNC/1276-2027-2-ND/3887685; TemperatureCoefficient: X7R; Voltage: 16V; Price: 0.0188; Type: -; Device Package: 0603 (1608 Metric)
footprint CAP 0603/1608
pins: 1, 2

## CL10B331JB8NNNC
designator C?, comment 330pF
CAP CER 330PF 50V X7R 0603; Part Number: CL10B331JB8NNNC; Manufacturer: Samsung Electro-Mechanics America, Inc.; TemperatureRange: -55C ~ 125C; Tolerance: 5%; Value: 330pF; PartId: 5477; Supplier 1: Digi-Key; Supplier Part Number 1: 1276-2028-2-ND; ComponentLink1Description: Datasheet; ComponentLink1URL: http://www.samsungsem.com/kr/support/product-search/mlcc/CL10B331JB8NNNC.jsp; ComponentLink2Description: Digi-Key listing; ComponentLink2URL: http://digikey.com/product-detail/en/CL10B331JB8NNNC/1276-2028-2-ND/3887686; TemperatureCoefficient: X7R; Voltage: 50V; Price: 0.0173; Type: -; Device Package: 0603 (1608 Metric)
footprint CAP 0603/1608
pins: 1, 2

## CL10B331KB8NNNC
designator C?, comment 330pF
CAP CER 330PF 50V X7R 0603; Part Number: CL10B331KB8NNNC; Manufacturer: Samsung Electro-Mechanics America, Inc.; TemperatureRange: -55C ~ 125C; Tolerance: 10%; Value: 330pF; PartId: 5352; Supplier 1: Digi-Key; Supplier Part Number 1: 1276-1787-2-ND; ComponentLink1Description: Datasheet; ComponentLink1URL: http://www.samsungsem.com/kr/support/product-search/mlcc/CL10B331KB8NNNC.jsp; ComponentLink2Description: Digi-Key listing; ComponentLink2URL: http://digikey.com/product-detail/en/CL10B331KB8NNNC/1276-1787-2-ND/3887445; TemperatureCoefficient: X7R; Voltage: 50V; Price: 0.0097; Type: -; Device Package: 0603 (1608 Metric)
footprint CAP 0603/1608
pins: 1, 2

## CL10B332JB8NNNC
designator C?, comment 3300pF
CAP CER 3300PF 50V X7R 0603; Part Number: CL10B332JB8NNNC; Manufacturer: Samsung Electro-Mechanics America, Inc.; TemperatureRange: -55C ~ 125C; Tolerance: 5%; Value: 3300pF; PartId: 5357; Supplier 1: Digi-Key; Supplier Part Number 1: 1276-2030-2-ND; ComponentLink1Description: Datasheet; ComponentLink1URL: http://www.samsungsem.com/kr/support/product-search/mlcc/CL10B332JB8NNNC.jsp; ComponentLink2Description: Digi-Key listing; ComponentLink2URL: http://digikey.com/product-detail/en/CL10B332JB8NNNC/1276-2030-2-ND/3887688; TemperatureCoefficient: X7R; Voltage: 50V; Price: 0.0099; Type: -; Device Package: 0603 (1608 Metric)
footprint CAP 0603/1608
pins: 1, 2

## CL10B332KB8NNNC
designator C?, comment 3300pF
CAP CER 3300PF 50V X7R 0603; Part Number: CL10B332KB8NNNC; Manufacturer: Samsung Electro-Mechanics America, Inc.; TemperatureRange: -55C ~ 125C; Tolerance: 10%; Value: 3300pF; PartId: 5313; Supplier 1: Digi-Key; Supplier Part Number 1: 1276-1758-2-ND; ComponentLink1Description: Datasheet; ComponentLink1URL: http://www.samsungsem.com/kr/support/product-search/mlcc/CL10B332KB8NNNC.jsp; ComponentLink2Description: Digi-Key listing; ComponentLink2URL: http://digikey.com/product-detail/en/CL10B332KB8NNNC/1276-1758-2-ND/3887416; TemperatureCoefficient: X7R; Voltage: 50V; Price: 0.0081; Type: -; Device Package: 0603 (1608 Metric)
footprint CAP 0603/1608
pins: 1, 2

## CL10B332KB8SFNC
designator C?, comment 3300pF
CAP CER 3300PF 50V X7R 0603; Part Number: CL10B332KB8SFNC; Manufacturer: Samsung Electro-Mechanics America, Inc.; TemperatureRange: -55C ~ 125C; Tolerance: 10%; Value: 3300pF; PartId: 13281; Supplier 1: Digi-Key; Supplier Part Number 1: 1276-2034-2-ND; ComponentLink1Description: Datasheet; ComponentLink1URL: http://www.samsungsem.com/kr/support/product-search/mlcc/CL10B332KB8SFNC.jsp; ComponentLink2Description: Digi-Key Listing; ComponentLink2URL: https://www.digikey.com/product-detail/en/samsung-electro-mechanics-america-inc/CL10B332KB8SFNC/1276-2034-2-ND/3887692; TemperatureCoefficient: X7R; Voltage: 50V; Price: 0.0063; Device Package: 0603 (1608 Metric)
footprint CAP 0603/1608
pins: 1, 2

## CL10B332KB8WPNC
designator C?, comment 3300pF
CAP CER 3300PF 50V X7R 0603; Part Number: CL10B332KB8WPNC; Manufacturer: Samsung Electro-Mechanics; TemperatureRange: -55C ~ 125C; Tolerance: 10%; Value: 3300pF; PartId: 30234; Supplier 1: Digi-Key; Supplier Part Number 1: 1276-6507-2-ND; ComponentLink1Description: Datasheet; ComponentLink1URL: http://www.samsungsem.com/kr/support/product-search/mlcc/CL10B332KB8WPNC.jsp; ComponentLink2Description: Digi-Key Listing; ComponentLink2URL: https://www.digikey.com/product-detail/en/samsung-electro-mechanics/CL10B332KB8WPNC/1276-6507-2-ND/5960991; TemperatureCoefficient: X7R; Voltage: 50V; Price: 0; Device Package: 0603 (1608 Metric)
footprint CAP 0603/1608
pins: 1, 2